# Altium footprint library sounders.PcbLib: 8 footprints
Each footprint in its own frame and in the unit in brackets; x right, y up, seen from the top. Pads: shape width x height; smd on the part's side, far side on the other; paste and mask are expansions set on the pad; w line width, h text height; cw(c..) or ccw(c..) is an arc to the next point about the centre after c.
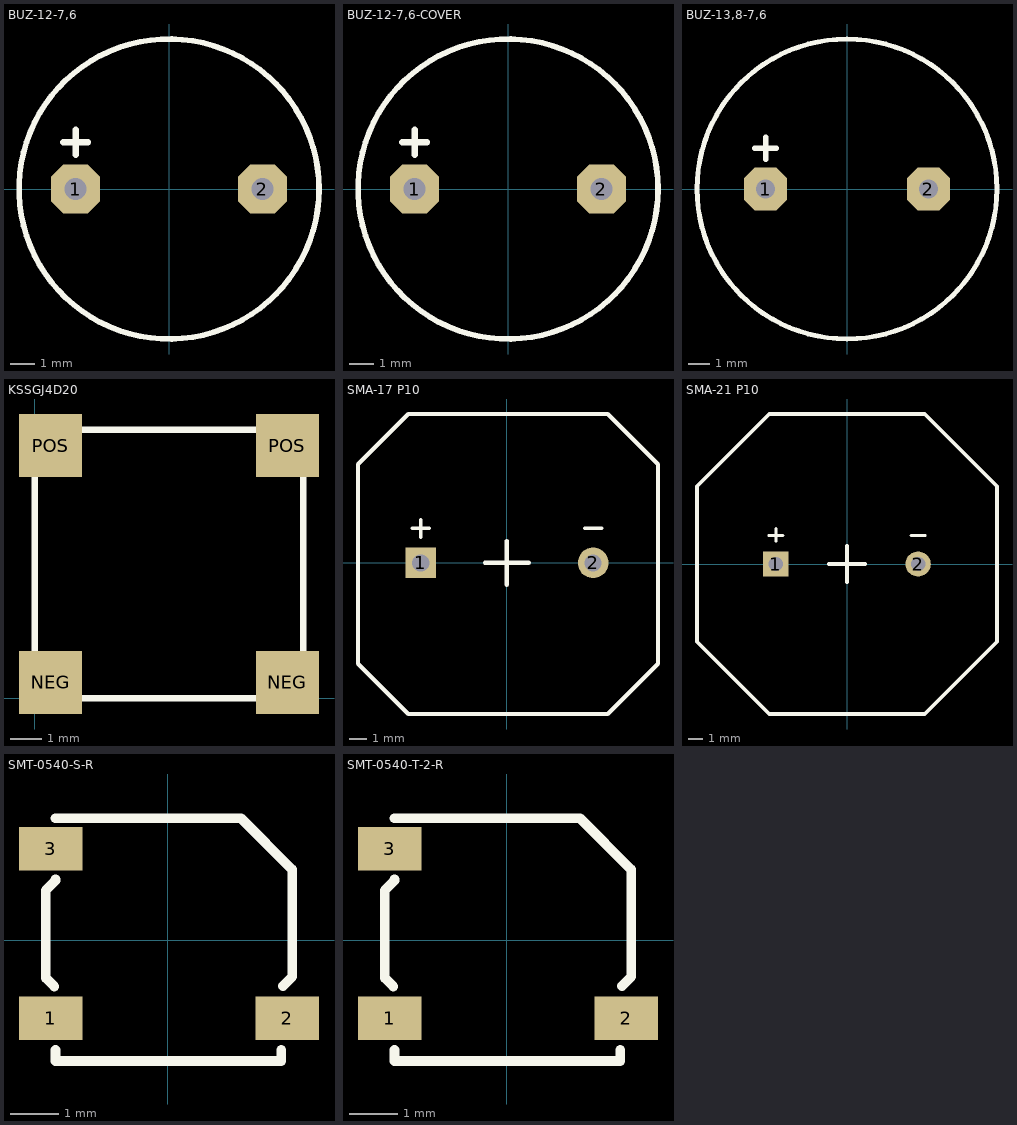
[diagram p0: the footprints below, top view; thin cyan lines are the x and y axes]

## BUZ-12-7,6 [mm] "BUZZER (w generator), D:12mm, P:7,6mm (eg. BMT1203UX)"
height 7.5
pads (2):
  oct 2x2 hole 0.9: 1(-3.8,0) 2(3.8,0)
Top Overlay:
  circle w0.229: c0,0 r6.1
  lines w0.25: -4.303,1.903 -3.287,1.903 ; -3.795,1.395 -3.795,2.411
3D body "User Library-WST-1203UX_NO_COVER.STEP": height 9.5, standoff -4.5, extent -6,-6 6,6

## BUZ-12-7,6-COVER [mm] "BUZZER (w generator), D:12mm, P:7,6mm (eg. BMT1203UX)"
height 7.5
pads (2):
  oct 2x2 hole 0.9: 1(-3.8,0) 2(3.8,0)
Top Overlay:
  circle w0.229: c0,0 r6.1
  lines w0.25: -4.303,1.903 -3.287,1.903 ; -3.795,1.395 -3.795,2.411
3D body "User Library-WST-1203UX.step": height 9.65, standoff -4.5, extent -9.454,-6 6,6

## BUZ-13,8-7,6 [mm] "BUZZER (w or w/o generator), D:13,8mm, P:7,6mm (eg. BPT1412XH7.5)"
height 7.5
pads (2):
  oct 2x2 hole 0.9: 1(-3.8,0) 2(3.8,0)
Top Overlay:
  circle w0.229: c0,0 r7
  lines w0.25: -4.303,1.903 -3.287,1.903 ; -3.795,1.395 -3.795,2.411
3D body "User Library-Buzzer14mm.step": height 7.35, standoff -3.1, extent -7,-7 7,7

## KSSGJ4D20 [mm] "KINGSTATE Magnetic Buzzer, SMD, 97DB MAX, 3.6V"
pads (4):
  rect 2x2 smd: NEG(0.5,0.5) NEG(8,0.5) POS(0.5,8) POS(8,8)
Top Overlay:
  lines w0.2: 0,0 8.5,0 8.5,8.5 0,8.5 0,0
3D body: height 3.2, standoff 0, extent 0,0 8.5,8.5

## SMA-17 P10 [mm]
pads (2):
  rect 1.778x1.778 hole 1: 1(-5,0)
  round 1.778 hole 1: 2(5,0)
Top Overlay:
  lines w0.2: -5.5,2 -4.5,2 ; -5,1.5 -5,2.5 ; 4.5,2 5.5,2
  lines w0.254: -1.27,0 1.27,0 ; 0,-1.27 0,1.27 ; -8.636,-5.842 -8.636,5.715 -5.715,8.636 5.842,8.636 8.763,5.715 8.763,-5.842 5.842,-8.763 -5.715,-8.763 -8.636,-5.842
3D body "Sonitron-SMA(T)-17 P10-DEFAULT.STEP": height 8.01, standoff -6, extent -8.69,-8.783 8.81,8.717

## SMA-21 P10 [mm]
pads (2):
  rect 1.778x1.778 hole 1: 1(-5,0)
  round 1.778 hole 1: 2(5,0)
Top Overlay:
  lines w0.2: -5.5,2 -4.5,2 ; -5,1.6 -5,2.5 ; 4.5,2 5.5,2
  lines w0.254: -1.27,0 1.27,0 ; 0,-1.27 0,1.27 ; -10.541,-5.461 -5.461,-10.541 5.461,-10.541 10.541,-5.461 10.541,5.461 5.461,10.541 -5.461,10.541 -10.541,5.461 -10.541,-5.461
3D body "Sonitron-SMA(T)-21 P10-DEFAULT.STEP": height 9.41, standoff -5.6, extent -10.5,-10.541 10.5,10.459

## SMT-0540-S-R [mm] "PUI Audio Inc. Electromechanical Buzzer"
height 2
pads (3):
  rect 1.3x0.9 smd: 1(-2.4,-1.6) 2(2.45,-1.6) 3(-2.4,1.875)
Top Overlay:
  lines w0.2: -2.325,-0.95 -2.5,-0.775 -2.5,1.025 -2.325,1.2 -2.3,1.225 -2.3,1.25 ; -2.3,-2.25 -2.3,-2.475 2.325,-2.475 2.325,-2.25 ; -2.3,2.5 1.5,2.5 2.55,1.45 2.55,-0.75 2.362,-0.937
3D body "SMT-0540-S-R.STEP": height 2, standoff 0, extent -2.7,-2.5 2.7,2.5

## SMT-0540-T-2-R [mm] "PUI Audio Inc. Electromechanical Buzzer"
height 3
pads (3):
  rect 1.3x0.9 smd: 1(-2.4,-1.6) 2(2.45,-1.6) 3(-2.4,1.875)
Top Overlay:
  lines w0.2: -2.325,-0.95 -2.5,-0.775 -2.5,1.025 -2.325,1.2 -2.3,1.225 -2.3,1.25 ; -2.3,-2.25 -2.3,-2.475 2.325,-2.475 2.325,-2.25 ; -2.3,2.5 1.5,2.5 2.55,1.45 2.55,-0.75 2.362,-0.937
3D body "SMT-0540-T-2-R.STEP": height 3, standoff 0, extent -2.75,-2.5 2.75,2.5